# Altium schematic symbol library SLH2812D_KR.Schlib: 1 symbol
Pins are listed as number, name and electrical type; pins without a type are passive.

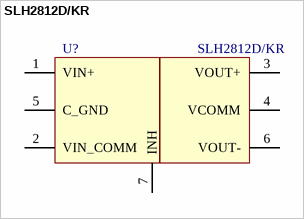
[diagram p0: symbol SLH2812D/KR]

## SLH2812D/KR
designator U?
Назначение: DC-DC преобразователь; Наименование: SLH2805
footprint SLH 2805
pins: 1 VIN+, 2 VIN_COMM, 3 VOUT+, 4 VCOMM, 5 C_GND, 6 VOUT-, 7 INH